# Altium schematic symbol library Schlib1.SchLib: 43 symbols
Pins are listed as number, name and electrical type; pins without a type are passive.

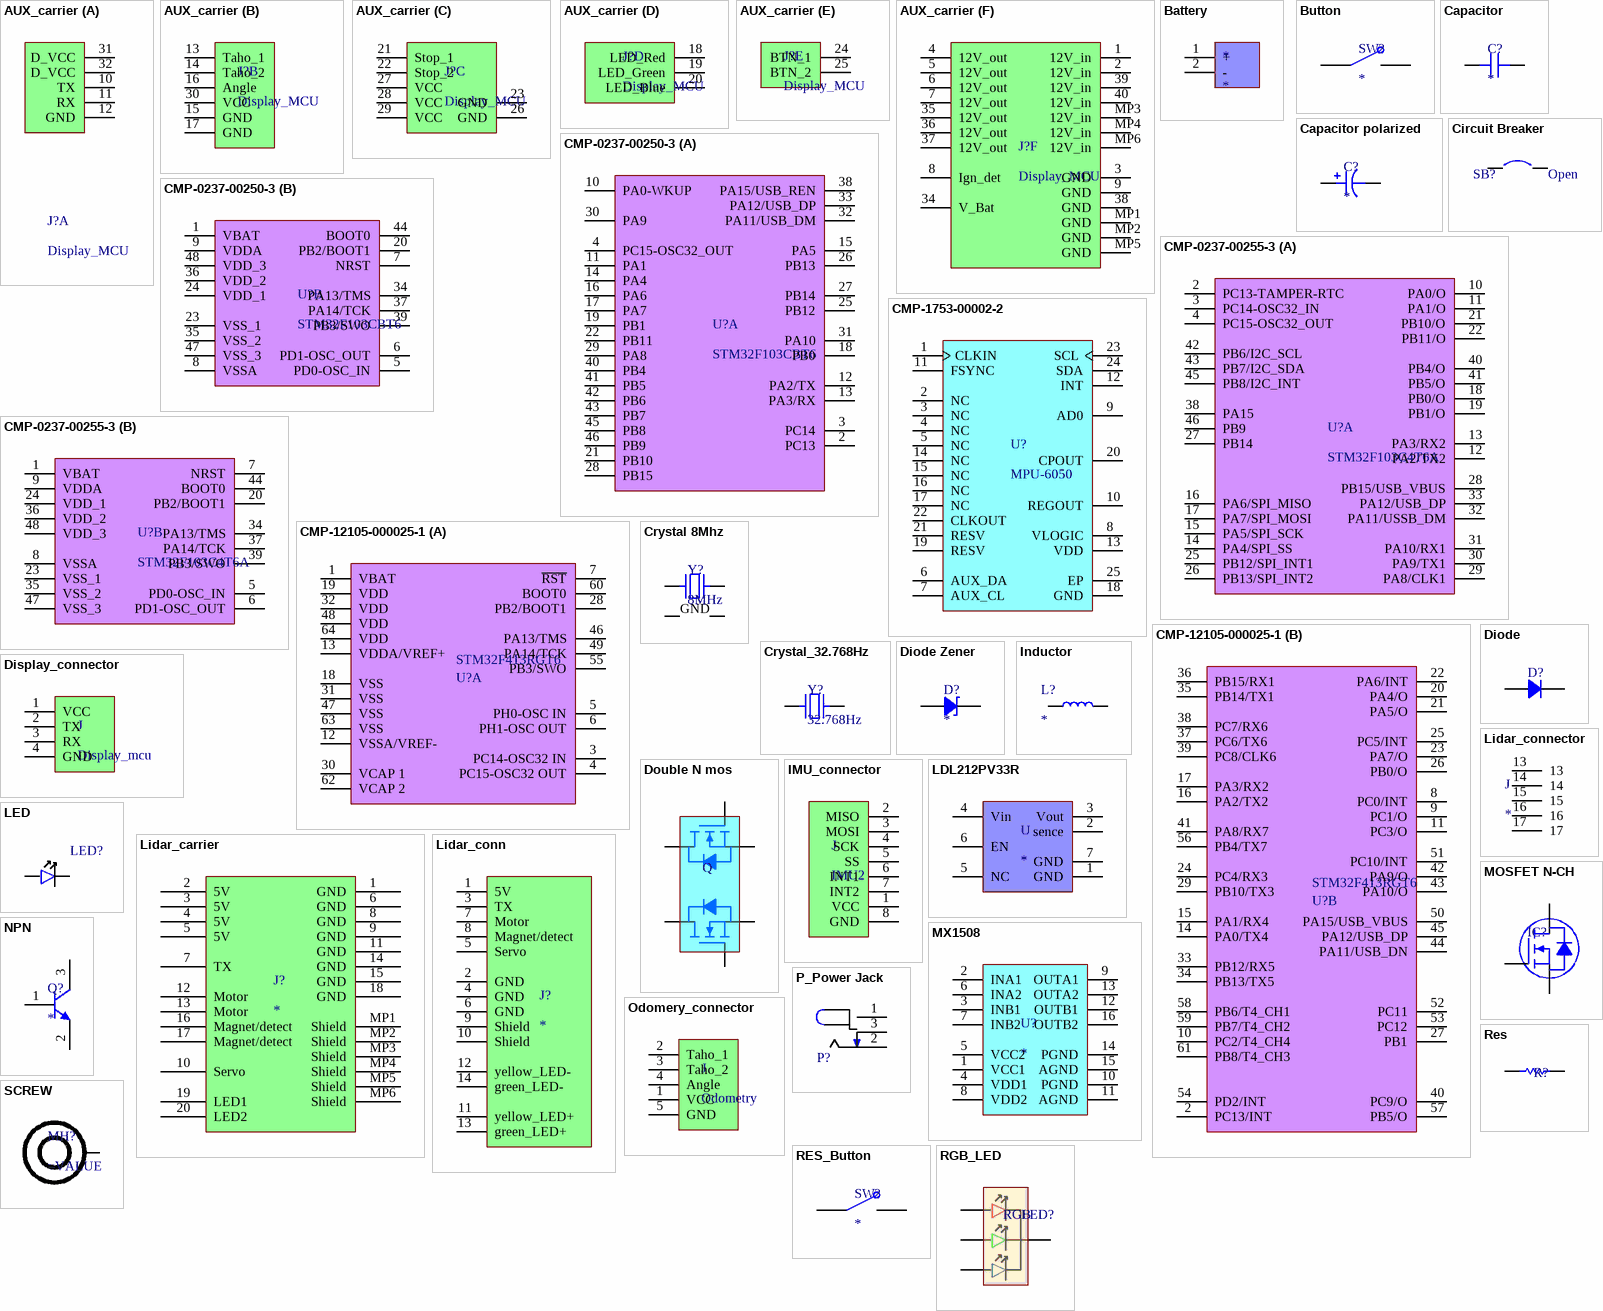
[diagram p0: symbols AUX_carrier to SCREW]

## AUX_carrier
designator J?, comment Display_MCU
footprint 2167010409
part A pins: 10 TX, 11 RX, 12 GND, 31 D_VCC, 32 D_VCC
part B pins: 13 Taho_1, 14 Taho_2, 15 GND, 16 Angle, 17 GND, 30 VCC
part C pins: 21 Stop_1, 22 Stop_2, 23 GND, 26 GND, 27 VCC, 28 VCC, 29 VCC
part D pins: 18 LED_Red, 19 LED_Green, 20 LED_Blue
part E pins: 24 BTN_1, 25 BTN_2
part F pins: 1 12V_in, 2 12V_in, 3 GND, 4 12V_out, 5 12V_out, 6 12V_out, 7 12V_out, 8 Ign_det, 9 GND, 34 V_Bat, 35 12V_out, 36 12V_out, 37 12V_out, 38 GND, 39 12V_in, 40 12V_in, MP1 GND, MP2 GND, MP3 12V_in, MP4 12V_in, MP5 GND, MP6 12V_in

## Battery
designator *
pins: 1 +, 2 -

## Button
designator SW?
footprint COM10302; pin to pad 2>3
pins: 1, 2

## Capacitor
designator C?
SMT Capacitor; Value: *
footprint CAP 0603 (Chip Resistor, 2-Leads, Body 1.60x0.80mm)
footprint CAP 1210 (Chip Resistor, 2-Leads, Body 1.60x0.80mm)
footprint CAP 1206 (Chip Resistor, 2-Leads, Body 1.60x0.80mm)
pins: 1, 2

## Capacitor polarized
designator C?
SMT Polarised Capacitor; Value: *
footprint CAP ALSMD ELEC 6.6MM H5.7MM (Aluminum SMD Electrolytic Capacitor, 6.60mm Land Size, 6.30mm Diameter, 5.70mm Height, 8.00mm Maximum Leads Span)
pins: 1, 2

## Circuit Breaker
designator SB?, comment Open
Circuit Breaker; Published: 24-Mar-1999; Revision: July-2002: Re-released for DXP Platform.; Publisher: Altium Limited
footprint SB_0603 (Jumper)
pins: 1, 2

## CMP-0237-00250-3
designator U?, comment STM32F103CBT6
ARM Cortex-M3 32-bit MCU, 128 KB Flash, 20 KB Internal RAM, 37 I/Os, 48-pin LQFP, -40 to 85 degC, Tray; Supply Voltage(Vcc) min (V): 2; Operating Frequency(F) (Processor speed) (MHz): 72; A/D Converter: 2x12-bit (10 Channel); FLASH Size (Prog) (kB): 128; Internal RAM Size (kB): 20; I/Os (High Current): 37; ComponentLink2Description: Datasheet; PackageReference: LQFP48; PartNumber: STM32F103CBT6; ComponentLink1Description: Manufacturer URL; DatasheetVersion: Rev. 16; PackageVersion: Rev. 6, 06/2013; Packing: Tray; ComponentLink1URL: http://www.st.com/web/en/home.html; Mounting Technology: Surface Mount; ComponentLink3URL: http://www.st.com/st-web-ui/static/active/en/resource/technical/document/datasheet/DM00058181.pdf; PackageDescription: 48-Pin Low Profile Quad Flat Package, 7 x 7 mm Body, 0.5 mm Pitch; Core: ARM Cortex-M3; ComponentLink3Description: Package Specification; ComponentLink2URL: http://www.st.com/st-web-ui/static/active/en/resource/technical/document/datasheet/CD00161566.pdf
footprint TI PQFP-48 PAG0048A (TSQFP, 48-Leads, Body 7.00x7.00mm, Pitch 0.50mm, IPC Medium Density)
part A pins: 2 PC13 "PC13-TAMPER-RTC/PC13/TAMPER-RTC", 3 PC14 "PC14-OSC32_IN/PC14/OSC32_IN", 4 PC15-OSC32_OUT "PC15-OSC32_OUT/PC15/OSC32_OUT", 10 PA0-WKUP "PA0-WKUP/PA0/WKUP/USART2_CTS/ADC12_IN0/TIM2_CH1_ETR", 11 PA1 "PA1/USART2_RTS/ADC12_IN1/TIM2_CH2", 12 PA2/TX "PA2/USART2_TX/ADC12_IN2/TIM2_CH3", 13 PA3/RX "PA3/USART2_RX/ADC12_IN3/TIM2_CH4", 14 PA4 "PA4/SPI1_NSS/USART2_CK/ADC12_IN4", 15 PA5 "PA5/SPI1_SCK/ADC12_IN5", 16 PA6 "PA6/SPI1_MISO/ADC12_IN6/TIM3_CH1/TIM1_BKIN", 17 PA7 "PA7/SPI1_MOSI/ADC12_IN7/TIM3_CH2/TIM1_CH1N", 18 PB0 "PB0/ADC12_IN8/TIM3_CH3/TIM1_CH2N", 19 PB1 "PB1/ADC12_IN9/TIM3_CH4/TIM1_CH3N", 21 PB10 "PB10/I2C2_SCL/USART3_TX/TIM2_CH3", 22 PB11 "PB11/I2C2_SDA/USART3_RX/TIM2_CH4", 25 PB12 "PB12/SPI2_NSS/I2C2_SMBAl/USART3_CK/TIM1_BKIN", 26 PB13 "PB13/SPI2_SCK/USART3_CTS/TIM1_CH1N", 27 PB14 "PB14/SPI2_MISO/USART3_RTS/TIM1_CH2N", 28 PB15 "PB15/SPI2_MOSI/TIM1_CH3N", 29 PA8 "PA8/USART1_CK/TIM1_CH1/MCO", 30 PA9 "PA9/USART1_TX/TIM1_CH2", 31 PA10 "PA10/USART1_RX/TIM1_CH3", 32 PA11/USB_DM "PA11/USART1_CTS/CANRX/USBDM/TIM1_CH4", 33 PA12/USB_DP "PA12/USART1_RTS/CANTX/USBDP/TIM1_ETR", 38 PA15/USB_REN "PA15/JTDI/TIM2_CH1_ETR/SPI1_NSS", 40 PB4 "PB4/NJTRST/TIM3_CH1/SPI1_MISO", 41 PB5 "PB5/I2C1_SMBAI/TIM3_CH2/SPI1_MOSI", 42 PB6 "PB6/I2C1_SCL/TIM4_CH1/USART1_TX", 43 PB7 "PB7/I2C1_SDA/TIM4_CH2/USART1_RX", 45 PB8 "PB8/TIM4_CH3/I2C1_SCL/CANRX", 46 PB9 "PB9/TIM4_CH4/I2C1_SDA/CANTX"
part B pins: 1 VBAT (power), 5 PD0-OSC_IN "PD0/OSC_IN", 6 PD1-OSC_OUT "PD1/OSC_OUT", 7 NRST, 8 VSSA (power), 9 VDDA (power), 20 PB2/BOOT1, 23 VSS_1 (power), 24 VDD_1 (power), 34 PA13/TMS "PA13/JTMS/SWDIO", 35 VSS_2 (power), 36 VDD_2 (power), 37 PA14/TCK "PA14/JTCK/SWCLK", 39 PB3/SWO "PB3/JTDO/TIM2_CH2/TRACESWO/SPI1_SCK", 44 BOOT0, 47 VSS_3 (power), 48 VDD_3 (power)

## CMP-0237-00255-3
designator U?, comment STM32F103C4T6A
ARM Cortex-M3 32-bit MCU, 16 KB Flash, 6 KB Internal RAM, 37 I/Os, 48-pin LQFP, -40 to 85 degC, Tray; Operating Frequency(F) (Processor speed) (MHz): 72; Supply Voltage(Vcc) min (V): 2; FLASH Size (Prog) (kB): 16; A/D Converter: 2x12-bit (10 Channel); I/Os (High Current): 37; Internal RAM Size (kB): 6; ComponentLink1Description: Manufacturer URL; PartNumber: STM32F103C4T6A; ComponentLink2URL: http://www.st.com/st-web-ui/static/active/en/resource/technical/document/datasheet/CD00210843.pdf; PackageVersion: Rev. 6, 06/2013; ComponentLink2Description: Datasheet; Core: ARM Cortex-M3; ComponentLink3URL: http://www.st.com/st-web-ui/static/active/en/resource/technical/document/datasheet/DM00058181.pdf; PackageDescription: 48-Pin Low Profile Quad Flat Package, 7 x 7 mm Body, 0.5 mm Pitch; ComponentLink1URL: http://www.st.com/web/en/home.html; Packing: Tray; Mounting Technology: Surface Mount; PackageReference: LQFP48; ComponentLink3Description: Package Specification; DatasheetVersion: Rev. 6
footprint TI PQFP-48 PAG0048A (TSQFP, 48-Leads, Body 7.00x7.00mm, Pitch 0.50mm, IPC Medium Density)
part A pins: 2 PC13-TAMPER-RTC "PC13-TAMPER-RTC/PC13/TAMPER-RTC", 3 PC14-OSC32_IN "PC14-OSC32_IN/PC14/OSC32_IN", 4 PC15-OSC32_OUT "PC15-OSC32_OUT/PC15/OSC32_OUT", 10 PA0/O "PA0-WKUP/PA0/WKUP/USART2_CTS/ADC12_IN0/TIM2_CH1_ETR", 11 PA1/O "PA1/USART2_RTS/ADC12_IN1/TIM2_CH2", 12 PA2/TX2 "PA2/USART2_TX/ADC12_IN2/TIM2_CH3", 13 PA3/RX2 "PA3/USART2_RX/ADC12_IN3/TIM2_CH4", 14 PA4/SPI_SS "PA4/SPI1_NSS/USART2_CK/ADC12_IN4", 15 PA5/SPI_SCK "PA5/SPI1_SCK/ADC12_IN5", 16 PA6/SPI_MISO "PA6/SPI1_MISO/ADC12_IN6/TIM3_CH1/TIM1_BKIN", 17 PA7/SPI_MOSI "PA7/SPI1_MOSI/ADC12_IN7/TIM3_CH2/TIM1_CH1N", 18 PB0/O "PB0/ADC12_IN8/TIM3_CH3/TIM1_CH2N", 19 PB1/O "PB1/ADC12_IN9/TIM3_CH4/TIM1_CH3N", 21 PB10/O "PB10/TIM2_CH3", 22 PB11/O "PB11/TIM2_CH4", 25 PB12/SPI_INT1 "PB12/TIM1_BKIN", 26 PB13/SPI_INT2 "PB13/TIM1_CH1N", 27 PB14 "PB14/TIM1_CH2N", 28 PB15/USB_VBUS "PB15/TIM1_CH3N", 29 PA8/CLK1 "PA8/USART1_CK/TIM1_CH1/MCO", 30 PA9/TX1 "PA9/USART1_TX/TIM1_CH2", 31 PA10/RX1 "PA10/USART1_RX/TIM1_CH3", 32 PA11/USSB_DM "PA11/USART1_CTS/CAN_RX/TIM1_CH4/USBDM", 33 PA12/USB_DP "PA12/USART1_RTS/CAN_TX/TIM1_ETR/USBDP", 38 PA15 "PA15/JTDI/TIM2_CH1_ETR/SPI1_NSS", 40 PB4/O "PB4/NJTRST/TIM3_CH1/SPI1_MISO", 41 PB5/O "PB5/I2C1_SMBA/TIM3_CH2/SPI1_MOSI", 42 PB6/I2C_SCL "PB6/I2C1_SCL/USART1_TX", 43 PB7/I2C_SDA "PB7/I2C1_SDA/USART1_RX", 45 PB8/I2C_INT "PB8/I2C1_SCL/CAN_RX", 46 PB9 "PB9/I2C1_SDA/CAN_TX"
part B pins: 1 VBAT (power), 5 PD0-OSC_IN "PD0/OSC_IN", 6 PD1-OSC_OUT "PD1/OSC_OUT", 7 NRST, 8 VSSA (power), 9 VDDA (power), 20 PB2/BOOT1, 23 VSS_1 (power), 24 VDD_1 (power), 34 PA13/TMS "PA13/JTMS/SWDIO", 35 VSS_2 (power), 36 VDD_2 (power), 37 PA14/TCK "PA14/JTCK/SWCLK", 39 PB3/SWO "PB3/JTDO/TIM2_CH2/TRACESWO/SPI1_SCK", 44 BOOT0, 47 VSS_3 (power), 48 VDD_3 (power)

## CMP-1753-00002-2
designator U?, comment MPU-6050
3-Axis Gyroscope, Accelerometer and a Digital Motion Processor(TM) (DMP), 2.375 to 3.46 V, -40 to 85 degC, 24-Pin QFN, RoHS, Tape and Reel; Manufacturer: InvenSense; Featured Product: MPU-60506-Axis,IntegratedI²CSolution; Other Names: 1428-1007-2 / MPU6050; Sensor Type: MotionTracking; Online Catalog: MPU-6000™Series; Unit PriceUSD: Digital; Datasheet Version: Rev. 3.3, 05/2012; Category: Sensors,Transducers; Datasheet URL: http://datasheet.octopart.com/MPU-6050-InvenSense-datasheet-14421344.pdf; Family: Multifunction; Standard Package: 5,000; Manufacturer URL: http://www.invensense.com/; Output Type: Digital; Dynamic Catalog: MPU-6000™Series
footprint IS-QFN-24_V (QFN, 24-Leads, Body 4x4mm, Pitch 0.5mm, Thermal Pad 2.7x2.6mm)
pins: 1 CLKIN "Optional external reference clock input. Connect to GND if unused.", 2 NC "Not internally connected. May be used for PCB trace routing", 3 NC "Not internally connected. May be used for PCB trace routing", 4 NC "Not internally connected. May be used for PCB trace routing", 5 NC "Not internally connected. May be used for PCB trace routing", 6 AUX_DA "I2C master serial data, for connecting to external sensors", 7 AUX_CL "I2C Master serial clock, for connecting to external sensors", 8 VLOGIC "Digital I/O supply voltage", 9 AD0 "I2C Slave Address LSB (AD0)", 10 REGOUT "Regulator filter capacitor connection", 11 FSYNC "Frame synchronization digital input. Connect to GND if unused.", 12 INT "Interrupt digital output (totem pole or open-drain)", 13 VDD "Power supply voltage and Digital I/O supply voltage", 14 NC "Not internally connected. May be used for PCB trace routing", 15 NC "Not internally connected. May be used for PCB trace routing", 16 NC "Not internally connected. May be used for PCB trace routing", 17 NC "Not internally connected. May be used for PCB trace routing", 18 GND "Power supply ground", 19 RESV "Reserved. Do not connect", 20 CPOUT "Charge pump capacitor connection", 21 RESV "Reserved. Do not connect", 22 CLKOUT "System clock output", 23 SCL "System clock output  I2C serial clock (SCL)", 24 SDA "I2C serial data (SDA)", 25 EP "Exposed Pad"

## CMP-12105-000025-1
designator U?, comment STM32F413RGT6
IC MCU 32BIT 1MB FLASH 64LQFP; Manufacturer: STMicroelectronics; Max Supply Voltage: 3.6V; Number Of Uart Channels: 7; Data Bus Width: 32bits; Number Of Pwm Channels: 32; Max Junction Temp: +105°C; Number Of A/D Converters: 1; Core Architecture: ARM Cortex-M4; Number Of Timers/Counters: 15; Min Supply Voltage: 1.7V; Memory Size: 1MBytes; Standoff Height: 0.05mm; Number Of Spi Channels: 5; Number Of Adc Channels: 16; Number Of I2C Channels: 4; Ram Size: 320KBytes; Interface: I2C,SPI,UART,USART,CAN,USB,LIN,IrDA,I2S,Other; Frequency: 100MHz; Number Of I/Os: 50; Nominal Supply Current: 25-180mA; Ambient Temperature Range High: +85°C; Ipc Land Pattern Name: QFP50P1200X1200X160-64; Temperature Range High: +105°C; Lead Free: Yes; Ambient Temperature Range Low: -40°C; Digikey Description: IC MCU 32BIT 1MB FLASH 64LQFP; Device Class L3: Microcontrollers; Temperature: -40°C to +105°C; Temperature Range Low: -40°C; Number Of Cores: 1; ComponentLink2Description: Datasheet; Category: IC; Device Class L1: Integrated Circuits (ICs); Package: LQFP64-5W; Height: 1.6mm; ComponentLink2URL: http://www.st.com/content/ccc/resource/technical/document/datasheet/group3/f6/1d/4a/d9/f9/96/43/2a/DM00282249/files/DM00282249.pdf/jcr:content/translations/en.DM00282249.pdf; Manufacturer Part Number: STM32F413RGT6; RoHS: TRUE; Memory Type: FLASH; Number Of Usb Channels: 1; Device Class L2: Embedded Processors and Controllers; Automotive: No; Octopart: https://octopart.com/stm32f413rgt6-stmicroelectronics-76512522
footprint QFP50P1200X1200X165-64N
part A pins: 1 VBAT (power), 3 PC14-OSC32 IN, 4 PC15-OSC32 OUT, 5 PH0-OSC IN, 6 PH1-OSC OUT, 7 ~{RST}, 12 VSSA/VREF- (power), 13 VDDA/VREF+ (power), 18 VSS (power), 19 VDD (power), 28 PB2/BOOT1, 30 VCAP 1 (power), 31 VSS (power), 32 VDD (power), 46 PA13/TMS, 47 VSS (power), 48 VDD (power), 49 PA14/TCK, 55 PB3/SWO, 60 BOOT0, 62 VCAP 2 (power), 63 VSS (power), 64 VDD (power)
part B pins: 2 PC13/INT, 8 PC0/INT, 9 PC1/O, 10 PC2/T4_CH4, 11 PC3/O, 14 PA0/TX4, 15 PA1/RX4, 16 PA2/TX2, 17 PA3/RX2, 20 PA4/O, 21 PA5/O, 22 PA6/INT, 23 PA7/O, 24 PC4/RX3, 25 PC5/INT, 26 PB0/O, 27 PB1, 29 PB10/TX3, 33 PB12/RX5, 34 PB13/TX5, 35 PB14/TX1, 36 PB15/RX1, 37 PC6/TX6, 38 PC7/RX6, 39 PC8/CLK6, 40 PC9/O, 41 PA8/RX7, 42 PA9/O, 43 PA10/O, 44 PA11/USB_DN, 45 PA12/USB_DP, 50 PA15/USB_VBUS, 51 PC10/INT, 52 PC11, 53 PC12, 54 PD2/INT, 56 PB4/TX7, 57 PB5/O, 58 PB6/T4_CH1, 59 PB7/T4_CH2, 61 PB8/T4_CH3

## Crystal 8Mhz
designator Y?, comment 8MHz
SMT Crystal; Value: 8MHz
footprint XTAL_ECS-80-10-33-CHN-TR3
pins: 1, 2 GND, 3, 4 GND

## Crystal_32.768Hz
designator Y?, comment 32.768Hz
SMT Crystal; Value: 32.768Hz
footprint Crystal_32.768 (Chip Resistor, 2-Leads, Body 1.60x0.80mm)
pins: 1, 2

## Diode
designator D?
Rectifier Diode
footprint Bourns DO214AC SMA - duplicate (Molded Diode, 2-Leads, Body 4.30x2.60mm, IPC Medium Density)
footprint SOD123F (SODFL, 2-Leads, Body 1.60x3.50mm, IPC Medium Density)
footprint SOD323HP (Chip Resistor, 2-Leads, Body 1.60x0.80mm)
pins: 1, 2

## Diode Zener
designator D?
Zener Diode; Value: *
footprint Bourns DO214AC SMA (Molded Diode, 2-Leads, Body 4.30x2.60mm, IPC Medium Density)
pins: 1, 2

## Display_connector
designator J, comment Display_mcu
footprint JST XH B4B-XH-A
pins: 1 VCC, 2 TX, 3 RX, 4 GND

## Double N mos
designator Q  (value not drawn)
footprint TI SOT-563 DRL (SOT DRL, 6-Leads, Body 1.10x1.60mm, Pitch 0.5mm, IPC Medium Density)
pins: 1 G2, 2 S2, 3 D1, 4 G1, 5 S1, 6 D2

## IMU_connector
designator J, comment IMU2
footprint HARWIN M20-7820845 (2.54mm DIL PC TAIL PIN HEADER ASSEMBLY)
footprint SAMTEC_DWM-08-X-X-S-X
pins: 1 VCC, 2 MISO, 3 MOSI, 4 SCK, 5 SS, 6 INT1, 7 INT2, 8 GND

## Inductor
designator L?
SMT Inductor; Value: *
footprint IND 0806_2016 (Chip Capacitor, 2-Leads, Body 2.00x1.20mm, IPC Medium Density)
pins: 1, 2

## LDL212PV33R
designator U
footprint SON50P200X200X80-7N-D
pins: 1 GND, 2 sence, 3 Vout, 4 Vin, 5 NC, 6 EN, 7 GND

## LED
designator LED?, comment Blue  (value not drawn)
MFR Part #: NCD1206B1; Type: Extended; LCSC Part#: C130717; Datasheet: https://datasheet.lcsc.com/lcsc/2008201033_Foshan-NationStar-Optoelectronics-NCD1206B1_C130717.pdf
footprint LED_0603 (Chip Resistor, 2-Leads, Body 1.60x0.80mm)
pins: 1 R, 2 Catode

## Lidar_carrier
designator J?
footprint 2167010209
pins: 1 GND, 2 5V, 3 5V, 4 5V, 5 5V, 6 GND, 7 TX, 8 GND, 9 GND, 10 Servo, 11 GND, 12 Motor, 13 Motor, 14 GND, 15 GND, 16 Magnet/detect, 17 Magnet/detect, 18 GND, 19 LED1, 20 LED2, MP1 Shield, MP2 Shield, MP3 Shield, MP4 Shield, MP5 Shield, MP6 Shield

## Lidar_conn
designator J?
footprint MTJ88ARX1FSMLG
pins: 1 5V, 2 GND, 3 TX, 4 GND, 5 Servo, 6 GND, 7 Motor, 8 Magnet/detect, 9 Shield, 10 Shield, 11 yellow_LED+, 12 yellow_LED-, 13 green_LED+, 14 green_LED-

## Lidar_connector
designator J
pins: 13, 14, 15, 16, 17

## MOSFET N-CH
designator IC?
footprint SOT-23
pins: 1 G, 2 S, 3 D

## MX1508
designator U?
footprint TI SOP-16 D (SOP, 16-Leads, Body 9.90x3.90mm, Pitch 1.27mm, IPC Medium Density)
pins: 1 VCC1, 2 INA1, 3 INB1, 4 VDD1, 5 VCC2, 6 INA2, 7 INB2, 8 VDD2, 9 OUTA1, 10 PGND, 11 AGND, 12 OUTB1, 13 OUTA2, 14 PGND, 15 AGND, 16 OUTB2

## NPN
designator Q?
footprint SOT-23
pins: 1 B, 2 E, 3 C

## Odomery_connector
designator J, comment Odometry
footprint JST XH B5B-XH-A
pins: 1 VCC, 2 Taho_1, 3 Taho_2, 4 Angle, 5 GND

## P_Power Jack
designator P?, comment Power Jack  (value not drawn)
Power Barrel Connector Jack 2.10mm ID (0.083"), 5.50mm OD (0.217") Through Hole, Right Angle; MFR Part #: PJ-102A; Value: CONN PWR JACK 2X5.5MM SOLDER; Digikey Link: https://www.digikey.com/product-detail/en/PJ-102A/CP-102A-ND/275425/?itemSeq=304982367; LCSC Part#: C136744; Type: Extended
footprint Power_Jack
pins: 1 (power), 2 (power), 3 (power)

## Res
designator R?
Resistor; Ordered by: Subcon; Published: 8-Jun-2000; Revision: July-2002: Re-released for DXP Platform.; Publisher: Altium Limited
footprint RES 0603 (Chip Resistor, 2-Leads, Body 1.60x0.80mm)
footprint RES 1206 (Chip Resistor, 2-Leads, Body 1.60x0.80mm)
pins: 1, 2
2 alternate drawings of the same symbol

## RES_Button
designator SW?
footprint PTS636SL43LFS
footprint PTS636SM50JSMTRLFS
pins: 1, 2

## RGB_LED
designator LED?, comment RGB
MFR Part #: NCD1206B1; Type: Extended; LCSC Part#: C130717; Datasheet: https://datasheet.lcsc.com/lcsc/2008201033_Foshan-NationStar-Optoelectronics-NCD1206B1_C130717.pdf
footprint LED_1206
pins: 0 R, 1 Catode, 2 G, 3 B

## SCREW
designator MH?
footprint SCREW_M3.0 (M3 Screw Close FIt)
pins: 1

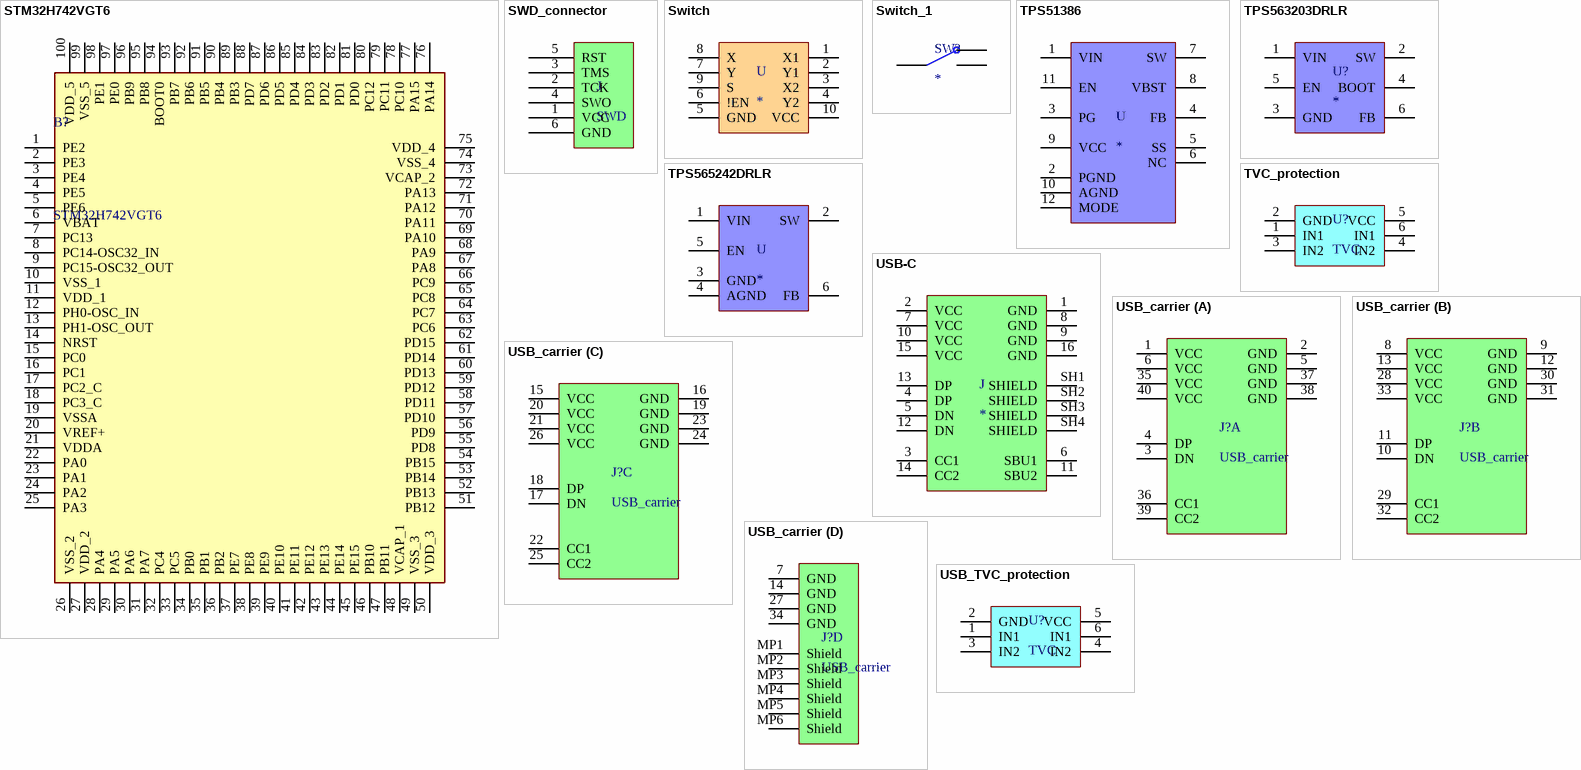
[diagram p1: symbols STM32H742VGT6 to USB_TVC_protection]

## STM32H742VGT6
designator B?
ARM Microcontrollers - MCU 16/32-BITS MICROS; Manufacturer_Name: STMicroelectronics; Geometry.Height: 1.6mm; Manufacturer_Part_Number: STM32H742VGT6; Mouser Part Number: 511-STM32H742VGT6; Mouser Price/Stock: https://www.mouser.co.uk/ProductDetail/STMicroelectronics/STM32H742VGT6?qs=%252B6g0mu59x7J82jMK97FZmQ%3D%3D; Arrow Part Number: *; Arrow Price/Stock: *; Datasheet Link: https://componentsearchengine.com/Datasheets/1/STM32H742VGT6.pdf
footprint QFP50P1600X1600X160-100N
pins: 1 PE2, 2 PE3, 3 PE4, 4 PE5, 5 PE6, 6 VBAT, 7 PC13, 8 PC14-OSC32_IN, 9 PC15-OSC32_OUT, 10 VSS_1, 11 VDD_1, 12 PH0-OSC_IN, 13 PH1-OSC_OUT, 14 NRST, 15 PC0, 16 PC1, 17 PC2_C, 18 PC3_C, 19 VSSA, 20 VREF+, 21 VDDA, 22 PA0, 23 PA1, 24 PA2, 25 PA3, 26 VSS_2, 27 VDD_2, 28 PA4, 29 PA5, 30 PA6, 31 PA7, 32 PC4, 33 PC5, 34 PB0, 35 PB1, 36 PB2, 37 PE7, 38 PE8, 39 PE9, 40 PE10, 41 PE11, 42 PE12, 43 PE13, 44 PE14, 45 PE15, 46 PB10, 47 PB11, 48 VCAP_1, 49 VSS_3, 50 VDD_3, 51 PB12, 52 PB13, 53 PB14, 54 PB15, 55 PD8, 56 PD9, 57 PD10, 58 PD11, 59 PD12, 60 PD13, 61 PD14, 62 PD15, 63 PC6, 64 PC7, 65 PC8, 66 PC9, 67 PA8, 68 PA9, 69 PA10, 70 PA11, 71 PA12, 72 PA13, 73 VCAP_2, 74 VSS_4, 75 VDD_4, 76 PA14, 77 PA15, 78 PC10, 79 PC11, 80 PC12, 81 PD0, 82 PD1, 83 PD2, 84 PD3, 85 PD4, 86 PD5, 87 PD6, 88 PD7, 89 PB3, 90 PB4, 91 PB5, 92 PB6, 93 PB7, 94 BOOT0, 95 PB8, 96 PB9, 97 PE0, 98 PE1, 99 VSS_5, 100 VDD_5

## SWD_connector
designator J, comment SWD
footprint HARWIN M20-7830345 - duplicate (2.54mm DIL PC TAIL PIN HEADER ASSEMBLY)
footprint AMPHENOL_20021121-00006C1LF
pins: 1 VCC, 2 TCK, 3 TMS, 4 SWO, 5 RST, 6 GND

## Switch
designator U
footprint PI3USB221AZUAEX
pins: 1 X1, 2 Y1, 3 X2, 4 Y2, 5 GND, 6 !EN, 7 Y, 8 X, 9 S, 10 VCC

## Switch_1
designator SW?
footprint EG1218
footprint HARWIN M20-7820245 (2.54mm DIL PC TAIL PIN HEADER ASSEMBLY); pin to pad 1>3 2>1 3>2
footprint SLW9135352ASMT
footprint SW_JS202011JCQN
pins: 1, 2, 3

## TPS51386
designator U
footprint VREG_TPS51386RJNR
pins: 1 VIN, 2 PGND, 3 PG, 4 FB, 5 SS, 6 NC, 7 SW, 8 VBST, 9 VCC, 10 AGND, 11 EN, 12 MODE

## TPS563203DRLR
designator U?
footprint TI SOT-563 DRL (SOT DRL, 6-Leads, Body 1.10x1.60mm, Pitch 0.5mm, IPC Medium Density)
pins: 1 VIN, 2 SW, 3 GND, 4 BOOT, 5 EN, 6 FB

## TPS565242DRLR
designator U
footprint TI SOT-563 DRL (SOT DRL, 6-Leads, Body 1.10x1.60mm, Pitch 0.5mm, IPC Medium Density)
pins: 1 VIN, 2 SW, 3 GND, 4 AGND, 5 EN, 6 FB

## TVC_protection
designator U?, comment TVC
footprint SOT95P275X110-6N - duplicate - duplicate
pins: 1 IN1, 2 GND, 3 IN2, 4 IN2, 5 VCC, 6 IN1

## USB-C
designator J
footprint AMPHENOL_GSB1C211110DS1HR
pins: 1 GND, 2 VCC, 3 CC1, 4 DP, 5 DN, 6 SBU1, 7 VCC, 8 GND, 9 GND, 10 VCC, 11 SBU2, 12 DN, 13 DP, 14 CC2, 15 VCC, 16 GND, SH1 SHIELD, SH2 SHIELD, SH3 SHIELD, SH4 SHIELD

## USB_carrier
designator J?
footprint 2167010409
part A pins: 1 VCC, 2 GND, 3 DN, 4 DP, 5 GND, 6 VCC, 35 VCC, 36 CC1, 37 GND, 38 GND, 39 CC2, 40 VCC
part B pins: 8 VCC, 9 GND, 10 DN, 11 DP, 12 GND, 13 VCC, 28 VCC, 29 CC1, 30 GND, 31 GND, 32 CC2, 33 VCC
part C pins: 15 VCC, 16 GND, 17 DN, 18 DP, 19 GND, 20 VCC, 21 VCC, 22 CC1, 23 GND, 24 GND, 25 CC2, 26 VCC
part D pins: 7 GND, 14 GND, 27 GND, 34 GND, MP1 Shield, MP2 Shield, MP3 Shield, MP4 Shield, MP5 Shield, MP6 Shield

## USB_TVC_protection
designator U?, comment TVC
footprint DIODES SOT-23-6 W6 (SOT23, 6-Leads, Body 3.00x2.85mm, Pitch 0.95mm, IPC Medium Density)
pins: 1 IN1, 2 GND, 3 IN2, 4 IN2, 5 VCC, 6 IN1